# Altium schematic symbol library 22057065.SchLib: 1 symbol
Pins are listed as number, name and electrical type; pins without a type are passive.

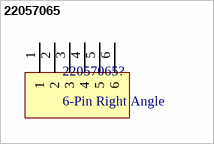
[diagram p0: symbol 22057065]

## 22057065
designator 22057065?, comment 6-Pin Right Angle
footprint 22057065
pins: 1, 2, 3, 4, 5, 6